# Altium footprint library XT30.PcbLib: 1 footprints
Each footprint in its own frame and in the unit in brackets; x right, y up, seen from the top. Pads: shape width x height; smd on the part's side, far side on the other; paste and mask are expansions set on the pad; w line width, h text height; cw(c..) or ccw(c..) is an arc to the next point about the centre after c.
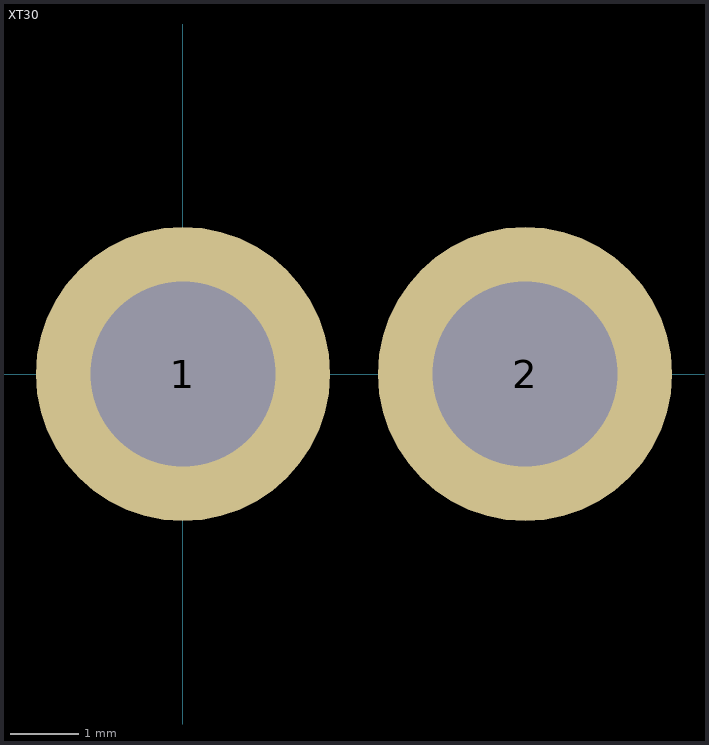
[diagram p0: the footprint, top view; thin cyan lines are the x and y axes]

## XT30 [mm]
pads (2):
  round 4.3 hole 2.7: 1(0,0) 2(5,0)
3D body "XT30 Male v1.step": height 10.75, standoff -3, extent -2.625,-2.625 7.625,2.625